# Altium schematic symbol library 430182043816.SchLib: 1 symbol
Pins are listed as number, name and electrical type; pins without a type are passive.

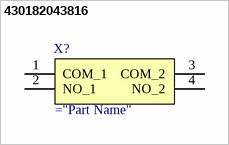
[diagram p0: symbol 430182043816]

## 430182043816
designator X?
Black Tactile Switch, Single Pole Single Throw (SPST) 50 mA @ 12 V dc 0.9mm Surface Mount; Manufacturer_Name: Wurth Elektronik; Manufacturer_Part_Number: 430182043816; Geometry.Height: 4.45mm; Mouser Part Number: 710-430182043816; Mouser Price/Stock: https://www.mouser.co.uk/ProductDetail/Wurth-Elektronik/430182043816?qs=wr8lucFkNMVm%252BwK7rSM84A%3D%3D; Datasheet Link: https://www.we-online.com/components/products/datasheet/430182043816.pdf
footprint 430182043816
pins: 1 COM_1, 2 NO_1, 3 COM_2, 4 NO_2